# Altium footprint library PCB_Switch.PcbLib: 17 footprints (part 1 of 2)
Each footprint in its own frame and in the unit in brackets; x right, y up, seen from the top. Pads: shape width x height; smd on the part's side, far side on the other; paste and mask are expansions set on the pad; w line width, h text height; cw(c..) or ccw(c..) is an arc to the next point about the centre after c.
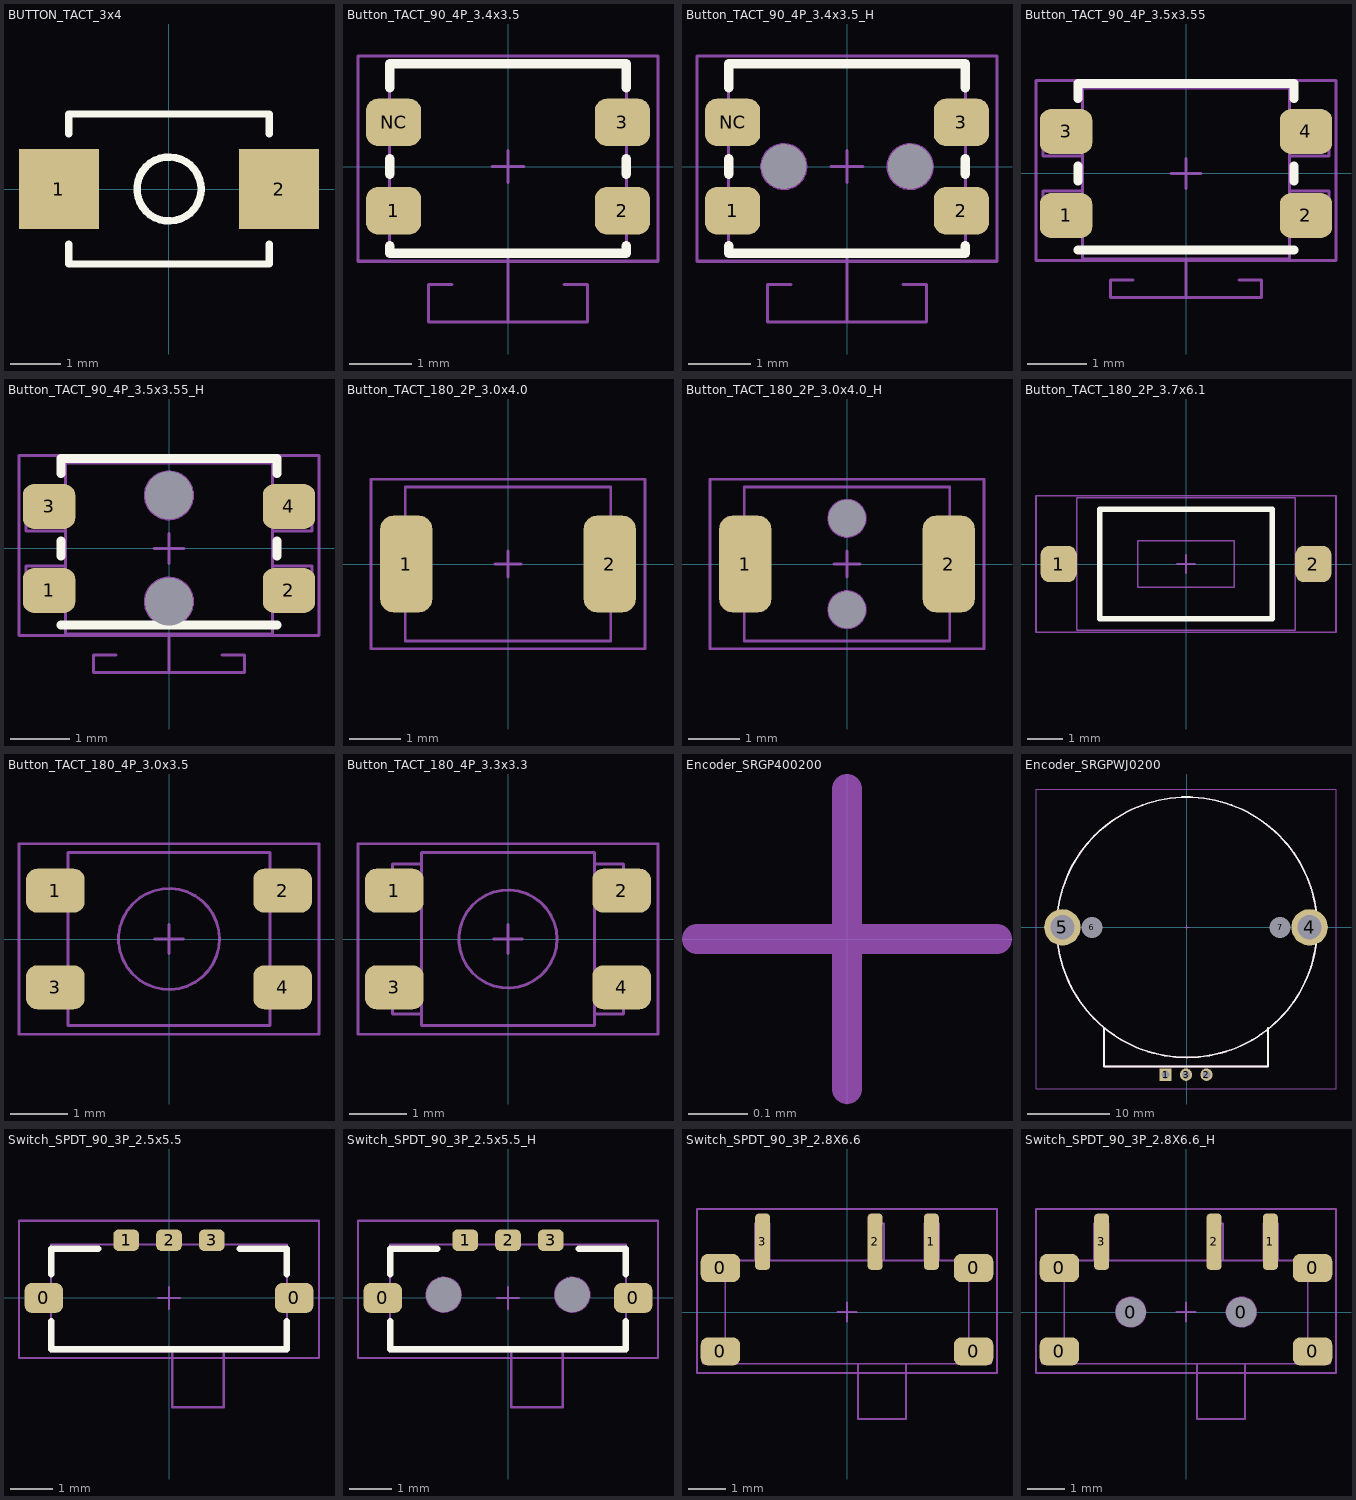
[diagram p0: the footprints below, top view; thin cyan lines are the x and y axes]

## BUTTON_TACT_3x4 [mm] "BUTTON_TACT"
pads (2):
  rect 1.6x1.6 smd: 1(-2.2,0) 2(2.2,0)
Top Overlay:
  circle w0.15: c0,0 r0.64
  lines w0.15: -2,-1.1 -2,-1.5 2,-1.5 2,-1.1 ; -2,1.1 -2,1.5 2,1.5 2,1.1
3D body "B3U-1000P--3DModel-STEP-56544.STEP": height 1.75, standoff 0, extent -2,-1.25 2,1.25

## Button_TACT_90_4P_3.4x3.5 [mil]
pads (4):
  rrect50% 35x30 smd: 1(-72.5,-28) 2(72.5,-28) 3(72.5,28) NC(-72.5,28)
Top Overlay:
  lines w6: -75,-50 -75,-55 75,-55 75,-50 ; -75,-5 -75,5 ; -75,50 -75,65 75,65 75,50 ; 75,-5 75,5
Mechanical 13:
  lines w2: -35.39,-74.78 -50.39,-74.78 -50.39,-98.4 50.39,-98.4 50.39,-74.78 35.39,-74.78 ; -10,0 10,0 ; 0,-98.4 0,-55.12 ; 0,-10 0,10 ; -75,-55.12 75,-55.12 75,65 -75,65 -75,-55.12
T-Component:
  lines w2: -95,-60 95,-60 95,70 -95,70 -95,-60
  text ".Designator" at -248.72,-21.56 h100
3D body "SKSCLD.STEP": height 50, standoff -19.68, extent -95.47,-82.87 95.48,57.48

## Button_TACT_90_4P_3.4x3.5_H [mil]
pads (6):
  rrect50% 35x30 smd: 1(-72.5,-28) 2(72.5,-28) 3(72.5,28) NC(-72.5,28)
  round 28 hole 28 unplated mask+0: ""(-40,0) ""(40,0)
Top Overlay:
  lines w6: -75,-50 -75,-55 75,-55 75,-50 ; -75,-5 -75,5 ; -75,50 -75,65 75,65 75,50 ; 75,-5 75,5
Mechanical 2:
  circle w2: c-40,0 r14
  circle w2: c40,0 r14
  lines w2: -45,0 -35,0 ; -40,-5 -40,5 ; 35,0 45,0 ; 40,-5 40,5
Mechanical 13:
  lines w2: -35.39,-74.78 -50.39,-74.78 -50.39,-98.4 50.39,-98.4 50.39,-74.78 35.39,-74.78 ; -10,0 10,0 ; 0,-98.4 0,-55.12 ; 0,-10 0,10 ; -75,-55.12 75,-55.12 75,65 -75,65 -75,-55.12
T-Component:
  lines w2: -95,-60 95,-60 95,70 -95,70 -95,-60
  text ".Designator" at -248.72,-21.56 h100
3D body "SKSCLD.STEP": height 50, standoff -19.68, extent -95.47,-82.87 95.48,57.48

## Button_TACT_90_4P_3.5x3.55 [mil] "SKSCLCE010"
pads (4):
  rrect50% 35x30 smd: 1(-80,-28) 2(80,-28) 3(-80,28) 4(80,28)
Top Overlay:
  lines w6: -72,-51 72,-51 ; -72,-5 -72,5 ; -72,50 -72,60 72,60 72,50 ; 72,-5 72,5
Mechanical 13:
  lines w2: -68.9,-39.37 -95.47,-39.37 -95.47,-11.81 -68.9,-11.81 ; -68.9,11.81 -95.47,11.81 -95.47,39.37 -68.9,39.37 ; -35.39,-70.87 -50.39,-70.87 -50.39,-82.68 50.39,-82.68 50.39,-70.87 35.39,-70.87 ; -10,0 10,0 ; 0,-82.68 0,-57.09 ; 0,-10 0,10 ; 68.9,-39.37 95.47,-39.37 95.47,-11.81 68.9,-11.81 ; 68.9,11.81 95.47,11.81 95.47,39.37 68.9,39.37 ; -68.9,-57.09 68.9,-57.09 68.9,57.09 -68.9,57.09 -68.9,-57.09
T-Component:
  lines w2: -100,-58 -100,62 100,62 100,-58 -100,-58
  text ".Designator" at -248.72,-21.56 h100
3D body "SKSCLD.STEP": height 50, standoff -19.68, extent -95.47,-82.87 95.48,57.49

## Button_TACT_90_4P_3.5x3.55_H [mil] "SKSCLDE010"
pads (6):
  rrect50% 35x30 smd: 1(-80,-28) 2(80,-28) 3(-80,28) 4(80,28)
  round 31.5 hole 31.5 unplated mask+0: ""(0,-35.43) ""(0,35.43)
Top Overlay:
  lines w6: -72,-51 72,-51 ; -72,-5 -72,5 ; -72,50 -72,60 72,60 72,50 ; 72,-5 72,5
Mechanical 2:
  circle w2: c0,-35.43 r15.75
  circle w2: c0,35.43 r15.75
  lines w2: -5,-35.43 5,-35.43 ; -5,35.43 5,35.43 ; 0,-40.43 0,-30.43 ; 0,30.43 0,40.43
Mechanical 13:
  lines w2: -68.9,-39.37 -95.47,-39.37 -95.47,-11.81 -68.9,-11.81 ; -68.9,11.81 -95.47,11.81 -95.47,39.37 -68.9,39.37 ; -35.39,-70.87 -50.39,-70.87 -50.39,-82.68 50.39,-82.68 50.39,-70.87 35.39,-70.87 ; -10,0 10,0 ; 0,-82.68 0,-57.09 ; 0,-10 0,10 ; 68.9,-39.37 95.47,-39.37 95.47,-11.81 68.9,-11.81 ; 68.9,11.81 95.47,11.81 95.47,39.37 68.9,39.37 ; -68.9,-57.09 -68.9,57.09 68.9,57.09 68.9,-57.09 -68.9,-57.09
T-Component:
  lines w2: -100,-58 100,-58 100,62 -100,62 -100,-58
  text ".Designator" at -248.72,-21.56 h100
3D body "SKSCLD.STEP": height 50, standoff -19.68, extent -95.47,-82.87 95.48,57.49

## Button_TACT_180_2P_3.0x4.0 [mil]
height 78.74
pads (2):
  rrect50% 40x74 smd: 1(-78,0) 2(78,0)
Mechanical 13:
  lines w2: -10,0 10,0 ; 0,-10 0,10 ; -95.47,-27.56 -95.47,27.56 -78.75,27.56 -78.75,-27.56 -95.47,-27.56 ; -78.73,-59.05 78.75,-59.05 78.75,59.06 -78.74,59.06 -78.74,-59.06 ; 78.75,-27.56 78.75,27.56 95.47,27.56 95.47,-27.56 78.75,-27.56
T-Component:
  lines w2: -105,-65 105,-65 105,65 -105,65 -105,-65
  text ".Designator" at -248.72,-21.56 h100
3D body "20041.stp": height 62.99, standoff 0, extent -78.73,-49.2 78.75,49.22

## Button_TACT_180_2P_3.0x4.0_H [mil]
height 78.74
pads (4):
  rrect50% 40x74 smd: 1(-78,0) 2(78,0)
  round 28 hole 28 unplated mask+0: ""(0,-35) ""(0,35)
Mechanical 2:
  circle w2: c0,-35 r14
  circle w2: c0,35 r14
  lines w2: -5,-35 5,-35 ; -5,35 5,35 ; 0,-40 0,-30 ; 0,30 0,40
Mechanical 13:
  lines w2: -10,0 10,0 ; 0,-10 0,10 ; -95.47,-27.56 -78.75,-27.56 -78.75,27.56 -95.47,27.56 -95.47,-27.56 ; -78.74,-59.06 -78.74,59.06 78.74,59.06 78.75,-59.05 -78.73,-59.05 ; 78.75,-27.56 95.47,-27.56 95.47,27.56 78.75,27.56 78.75,-27.56
T-Component:
  lines w2: -105,-65 105,-65 105,65 -105,65 -105,-65
  text ".Designator" at -248.72,-21.56 h100
3D body "20041.stp": height 62.99, standoff 0, extent -78.73,-49.2 78.75,49.22

## Button_TACT_180_2P_3.7x6.1 [mil]
pads (2):
  rrect50% 40x40 smd: 1(-140,0) 2(140,0)
Top Overlay:
  lines w6: -95,-60 95,-60 95,60 -95,60 -95,-60
Mechanical 13:
  region: -157.48,11.81 -138.78,11.81 -138.78,-11.81 -157.48,-11.81
  region: 157.48,-11.81 138.78,-11.81 138.78,11.81 157.48,11.81
  lines w2: -138.78,-11.81 -138.78,11.81 ; -10,0 10,0 ; 0,-10 0,10 ; 138.78,-11.81 138.78,11.81 ; -157.48,-11.81 -157.48,11.81 -120.08,11.81 -120.08,-11.81 -157.48,-11.81 ; -120.08,-72.83 -120.08,72.83 120.08,72.83 120.08,-72.83 -120.08,-72.83 ; -53.15,-25.59 53.15,-25.59 53.15,25.59 -53.15,25.59 -53.15,-25.59 ; 120.08,-11.81 157.48,-11.81 157.48,11.81 120.08,11.81 120.08,-11.81
T-Component:
  lines w2: -165,-75 -165,75 165,75 165,-75 -165,-75
  text ".Designator" at -248.72,-21.56 h100
3D body "User Library-Tact switch 1181_3.STEP": height 94.49, standoff -3.94, extent -157.48,-70.86 157.49,70.87

## Button_TACT_180_4P_3.0x3.5 [mil]
height 78.74
pads (4):
  rrect50% 40x30 smd: 1(-77.5,33) 2(77.5,33) 3(-77.5,-33) 4(77.5,-33)
Mechanical 13:
  circle w2: c0,0 r34.45
  lines w2: -10,0 10,0 ; 0,-10 0,10 ; -90.55,-41.34 -90.55,-21.65 -68.9,-21.65 -68.9,-41.34 -90.55,-41.34 ; -90.55,21.65 -90.55,41.34 -68.9,41.34 -68.9,21.65 -90.55,21.65 ; -68.9,-59.06 -68.9,59.06 68.9,59.06 68.9,-59.06 -68.9,-59.06 ; 68.9,-41.34 68.9,-21.65 90.55,-21.65 90.55,-41.34 68.9,-41.34 ; 68.9,21.65 68.9,41.34 90.55,41.34 90.55,21.65 68.9,21.65
T-Component:
  lines w2: -102.36,-65 -102.36,65 102.36,65 102.36,-65 -102.36,-65
  text ".Designator" at -248.72,-21.56 h100
3D body "20041.stp": height 62.99, standoff 0, extent -78.73,-49.2 78.75,49.22

## Button_TACT_180_4P_3.3x3.3 [mil]
height 78.74
pads (4):
  rrect50% 40x30 smd: 1(-77.5,33) 2(77.5,33) 3(-77.5,-33) 4(77.5,-33)
Mechanical 13:
  circle w2: c0,0 r33.46
  lines w2: -59.06,-51.18 -78.74,-51.18 -78.74,-35.43 -59.06,-35.43 ; -59.06,35.43 -78.74,35.43 -78.74,51.18 -59.06,51.18 ; -10,0 10,0 ; 0,-10 0,10 ; 59.06,-51.19 78.73,-51.19 78.73,-35.44 59.06,-35.44 ; 59.06,35.43 78.73,35.43 78.73,51.17 59.06,51.17 ; -59.06,-59.06 -59.06,59.05 59.05,59.05 59.06,-59.06 -59.06,-59.06
T-Component:
  lines w2: -102.36,-65 -102.36,65 102.36,65 102.36,-65 -102.36,-65
  text ".Designator" at -248.72,-21.56 h100
3D body "20041.stp": height 62.99, standoff 0, extent -78.73,-49.2 78.75,49.22

## Encoder_SRGP400200 [mil]
Mechanical 13:
  lines w2: -10,0 10,0 ; 0,-10 0,10
T-Component:
  text ".Designator" at -248.72,-21.56 h100
3D body "SRGP400200.stp": height 98.43, standoff -19.68, extent -354.32,-387.79 354.34,330.71

## Encoder_SRGPWJ0200 [mm]
pads (7):
  rect 1.5x1.5 hole 1: 1(-2.614,-18)
  round 1.5 hole 1: 2(2.386,-18) 3(-0.114,-18)
  round 4.452 hole 2.968: 4(14.986,0) 5(-15.214,0)
  round 1.275 hole 2.55 unplated: 6(-11.614,0) 7(11.386,0)
Top Overlay:
  circle w0.2: c0,0 r15.9
  lines w0.254: -10.114,-12.3 -10.114,-17 9.886,-17 9.886,-12.3 ; -0.614,15.9 0.386,15.9
Mechanical 13:
  circle w0.2: c0,0 r15.9
  lines w0.051: -0.254,0 0.254,0 ; 0,-0.254 0,0.254
  lines w0.2: -10.114,-12.3 -10.114,-17 9.886,-17 9.886,-12.3
T-Component:
  text ".Designator" at -6.317,-0.548 h2.54
B-Component:
  lines w0.1: -18.44,-19.75 18.212,-19.75 18.212,16.9 -18.44,16.9 -18.44,-19.75
3D body "SRGPWJ0200.stp": height 8.5, standoff -4, extent -16.499,-18.175 16.499,15

## Switch_SPDT_90_3P_2.5x5.5 [mm]
pads (5):
  rrect50% 0.9x0.7 smd: 0(-2.921,0) 0(2.921,0)
  rrect50% 0.6x0.5 smd: 1(-1,1.346) 2(0,1.346) 3(1,1.346)
Top Overlay:
  lines w0.152: -2.75,-0.548 -2.75,-1.198 2.75,-1.198 2.75,-0.548 ; -2.75,0.549 -2.75,1.149 -1.65,1.149 ; 1.65,1.149 2.75,1.149 2.75,0.549
Mechanical 13:
  lines w0.051: -2.75,-0.2 -3.25,-0.2 -3.25,0.2 -2.75,0.2 ; -1.2,1.25 -1.2,1.397 -0.8,1.397 -0.8,1.25 ; -0.254,0 0.254,0 ; -0.2,1.25 -0.2,1.397 0.2,1.397 0.2,1.25 ; 0,-0.254 0,0.254 ; 0.076,-1.25 0.076,-2.55 1.276,-2.55 1.276,-1.25 ; 0.8,1.25 0.8,1.397 1.2,1.397 1.2,1.25 ; 2.75,-0.2 3.25,-0.2 3.25,0.2 2.75,0.2 ; -2.75,-1.25 2.75,-1.25 2.75,1.25 -2.75,1.25 -2.75,-1.25
T-Component:
  lines w0.051: -3.5,-1.4 -3.5,1.8 3.5,1.8 3.5,-1.4 -3.5,-1.4
  text ".Designator" at -6.317,-0.548 h2.54
3D body "SSAJ110100.STEP": height 0.7, standoff -0.5, extent -3.25,-2.445 3.25,1.53

## Switch_SPDT_90_3P_2.5x5.5_H [mm]
pads (7):
  rrect50% 0.9x0.7 smd: 0(-2.921,0) 0(2.921,0)
  rrect50% 0.6x0.5 smd: 1(-1,1.346) 2(0,1.346) 3(1,1.346)
  round 0.8 hole 0.8 unplated mask+0: ""(-1.5,0.075) ""(1.5,0.075)
Top Overlay:
  lines w0.152: -2.75,-0.548 -2.75,-1.198 2.75,-1.198 2.75,-0.548 ; -2.75,0.549 -2.75,1.149 -1.65,1.149 ; 1.65,1.149 2.75,1.149 2.75,0.549
Mechanical 2:
  circle w0.051: c1.5,0.075 r0.4
  circle w0.051: c-1.5,0.075 r0.4
  lines w0.051: -1.627,0.075 -1.373,0.075 ; -1.5,-0.052 -1.5,0.202 ; 1.373,0.075 1.627,0.075 ; 1.5,-0.052 1.5,0.202
Mechanical 13:
  lines w0.051: -2.75,-0.2 -3.25,-0.2 -3.25,0.2 -2.75,0.2 ; -1.2,1.25 -1.2,1.397 -0.8,1.397 -0.8,1.25 ; -0.254,0 0.254,0 ; -0.2,1.25 -0.2,1.397 0.2,1.397 0.2,1.25 ; 0,-0.254 0,0.254 ; 0.076,-1.25 0.076,-2.55 1.276,-2.55 1.276,-1.25 ; 0.8,1.25 0.8,1.397 1.2,1.397 1.2,1.25 ; 2.75,-0.2 3.25,-0.2 3.25,0.2 2.75,0.2 ; -2.75,-1.25 2.75,-1.25 2.75,1.25 -2.75,1.25 -2.75,-1.25
T-Component:
  lines w0.051: -3.5,-1.4 3.5,-1.4 3.5,1.8 -3.5,1.8 -3.5,-1.4
  text ".Designator" at -6.317,-0.548 h2.54
3D body "SSAJ110100.STEP": height 0.7, standoff -0.5, extent -3.25,-2.445 3.25,1.53

## Switch_SPDT_90_3P_2.8X6.6 [mil]
pads (7):
  rrect50% 42x30 smd: 0(-135,-42) 0(-135,47) 0(135,-42) 0(135,47)
  rrect50% 16x60 smd: 1(90,75) 2(30,75) 3(-90,75)
Mechanical 13:
  lines w2: -10,0 10,0 ; 0,-10 0,10 ; -129.92,-55.12 -129.92,-39.37 -153.54,-39.37 -153.54,-55.12 -129.92,-55.12 ; -129.92,-55.12 129.92,-55.12 ; -129.92,-55.12 -129.92,55.12 ; -129.92,55.12 -129.92,39.37 -153.54,39.37 -153.54,55.12 -129.92,55.12 ; -129.92,55.12 129.92,55.12 ; 129.92,-55.12 129.92,-39.37 153.54,-39.37 153.54,-55.12 129.92,-55.12 ; 129.92,-55.12 129.92,55.12 ; 129.92,55.12 129.92,39.37 153.54,39.37 153.54,55.12 129.92,55.12 ; -98.43,55.12 -98.43,94.49 -82.68,94.49 -82.68,55.12 -98.43,55.12 ; 11.81,-114.17 62.99,-114.17 62.99,-55.12 11.81,-55.12 11.81,-114.17 ; 23.62,55 23.62,94.37 39.37,94.37 39.37,55 23.62,55 ; 82.68,55 98.43,55 98.43,94.37 82.68,94.37 82.68,55
T-Component:
  lines w2: -160,-65 -160,110 160,110 160,-65 -160,-65
  text ".Designator" at -248.72,-21.56 h100
3D body "User Library-MSS3_slide_switch_v2.STEP": height 55.12, standoff -19.68, extent -152.24,-110.67 150.91,86.18

## Switch_SPDT_90_3P_2.8X6.6_H [mil]
pads (9):
  rrect50% 42x30 smd: 0(-135,-42) 0(-135,47) 0(135,-42) 0(135,47)
  round 31.5 hole 31.5 unplated mask+0: 0(-59.06,0) 0(59.06,0)
  rrect50% 16x60 smd: 1(90,75) 2(30,75) 3(-90,75)
Mechanical 2:
  circle w2: c59.05,0 r15.75
  circle w2: c-59.06,0 r15.75
  lines w2: -64.06,0 -54.06,0 ; -59.06,-5 -59.06,5 ; 54.06,0 64.06,0 ; 59.06,-5 59.06,5
Mechanical 13:
  lines w2: -10,0 10,0 ; 0,-10 0,10 ; -129.92,-55.12 -129.92,55.12 ; -129.92,-55.12 129.92,-55.12 ; -129.92,-55.12 -153.54,-55.12 -153.54,-39.37 -129.92,-39.37 -129.92,-55.12 ; -129.92,55.12 129.92,55.12 ; -129.92,55.12 -153.54,55.12 -153.54,39.37 -129.92,39.37 -129.92,55.12 ; 129.92,-55.12 129.92,55.12 ; 129.92,-55.12 153.54,-55.12 153.54,-39.37 129.92,-39.37 129.92,-55.12 ; 129.92,55.12 153.54,55.12 153.54,39.37 129.92,39.37 129.92,55.12 ; -98.43,55.12 -82.68,55.12 -82.68,94.49 -98.43,94.49 -98.43,55.12 ; 11.81,-114.17 11.81,-55.12 62.99,-55.12 62.99,-114.17 11.81,-114.17 ; 23.62,55 39.37,55 39.37,94.37 23.62,94.37 23.62,55 ; 82.68,55 82.68,94.37 98.43,94.37 98.43,55 82.68,55
T-Component:
  lines w2: -160,-65 160,-65 160,110 -160,110 -160,-65
  text ".Designator" at -248.72,-21.56 h100
3D body "User Library-MSS3_slide_switch_v2.STEP": height 55.12, standoff -19.68, extent -152.24,-110.67 150.91,86.18